# EAGLE library part 8P8C_SHIELD_LED (library rj)
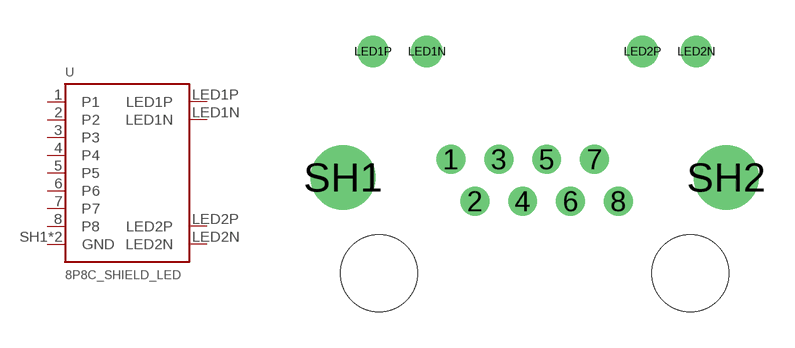
[diagram p0: symbol with the pads of 8P8C_SHIELD_LED; footprint 8P8C_SHIELD_LED]

Designator prefix -

## 8P8C_SHIELD_LED  [8P8C_SHIELD_LED]
1  P1
2  P2
3  P3
4  P4
5  P5
6  P6
7  P7
8  P8
LED1N  LED1N
LED1P  LED1P
LED2N  LED2N
LED2P  LED2P
SH1  GND
SH2  GND

## Footprint 8P8C_SHIELD_LED (pad centres in mm)
drill 0.7: 1 -3.5,9.75; 2 -2.5,8; 3 -1.5,9.75; 4 -0.5,8; 5 0.5,9.75; 6 1.5,8; 7 2.5,9.75; 8 3.5,8
drill 0.8: LED1N -4.5,14.25; LED1P -6.75,14.25; LED2N 6.75,14.25; LED2P 4.5,14.25
drill 1.8: SH1 -8,9; SH2 8,9
hole 3.2 at 6.5,5
hole 3.2 at -6.5,5